# Altium integrated library thermistors.IntLib: 3 symbols
Pins are listed as number, name and electrical type; pins without a type are passive.

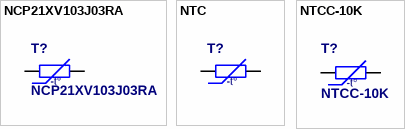
[diagram p0: symbols NCP21XV103J03RA to NTCC-10K]

## NCP21XV103J03RA
designator T?
10k (+/-5%) B=3900K NTC Thermistor; Published: 04-Apr-2006; Value: 10k
footprint T0805
pins: 1, 2
1 alternate drawing of the same symbol
text: -t°

## NTC
designator T?
NTC Thermistor; Published: 04-Apr-2006; Value: *
footprint GP_2x1
footprint NTC-2.5 (NTC)
pins: 1, 2
1 alternate drawing of the same symbol
text: -t°

## NTCC-10K
designator T?
NTC thermistor; 10kΩ; THT; 4000K; -55÷125°C; 500mW; Ø6.5mm
footprint NTC-2.5 (NTC)
pins: 1, 2
text: -t°